# EAGLE library part DSPIC33FJ128MC706A (library biomimetic)
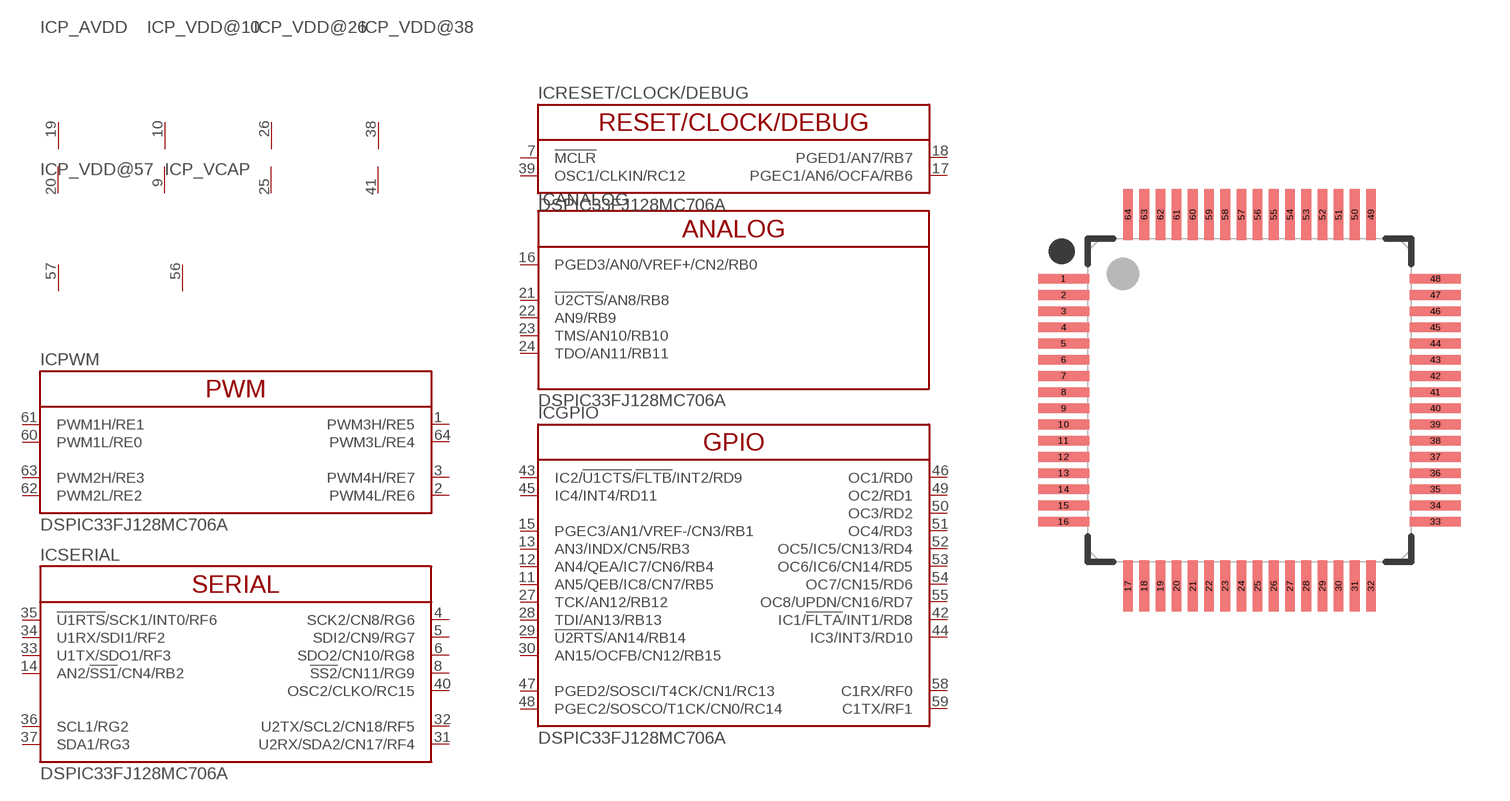
[diagram p5: symbol with the pads of TQFP-64; footprint TQFP-64]

Designator prefix IC; gates RESET/CLOCK/DEBUG=DSPIC33FJ128MC706A_DEBUG SERIAL=DSPIC33FJ128MC706A_SERIAL PWM=DSPIC33FJ128MC706A_PWM GPIO=DSPIC33FJ128MC706A_GPIO ANALOG=DSPIC33FJ128MC706A_ANALOG P_AVDD=V+- P_VDD@10=V+- P_VDD@26=V+- P_VDD@38=V+- P_VDD@57=V+ P_VCAP=V+

## DSPIC33FJ128MC706A  [TQFP-64]
1  PWM:PWM3H/RE5
2  PWM:PWM4L/RE6
3  PWM:PWM4H/RE7
4  SERIAL:SCK2/CN8/RG6
5  SERIAL:SDI2/CN9/RG7
6  SERIAL:SDO2/CN10/RG8
7  RESET/CLOCK/DEBUG:!MCLR  in
8  SERIAL:!SS2!/CN11/RG9
9  P_VDD@10:V-  pwr
10  P_VDD@10:V+  pwr
11  GPIO:AN5/QEB/IC8/CN7/RB5
12  GPIO:AN4/QEA/IC7/CN6/RB4
13  GPIO:AN3/INDX/CN5/RB3
14  SERIAL:AN2/!SS1!/CN4/RB2
15  GPIO:PGEC3/AN1/VREF-/CN3/RB1
16  ANALOG:PGED3/AN0/VREF+/CN2/RB0
17  RESET/CLOCK/DEBUG:PGEC1/AN6/OCFA/RB6
18  RESET/CLOCK/DEBUG:PGED1/AN7/RB7
19  P_AVDD:V+  pwr
20  P_AVDD:V-  pwr
21  ANALOG:!U2CTS!/AN8/RB8
22  ANALOG:AN9/RB9
23  ANALOG:TMS/AN10/RB10
24  ANALOG:TDO/AN11/RB11
25  P_VDD@26:V-  pwr
26  P_VDD@26:V+  pwr
27  GPIO:TCK/AN12/RB12
28  GPIO:TDI/AN13/RB13
29  GPIO:!U2RTS!/AN14/RB14
30  GPIO:AN15/OCFB/CN12/RB15
31  SERIAL:U2RX/SDA2/CN17/RF4
32  SERIAL:U2TX/SCL2/CN18/RF5
33  SERIAL:U1TX/SDO1/RF3
34  SERIAL:U1RX/SDI1/RF2
35  SERIAL:!U1RTS!/SCK1/INT0/RF6
36  SERIAL:SCL1/RG2
37  SERIAL:SDA1/RG3
38  P_VDD@38:V+  pwr
39  RESET/CLOCK/DEBUG:OSC1/CLKIN/RC12
40  SERIAL:OSC2/CLKO/RC15
41  P_VDD@38:V-  pwr
42  GPIO:IC1/!FLTA!/INT1/RD8
43  GPIO:IC2/!U1CTS!/!FLTB!/INT2/RD9
44  GPIO:IC3/INT3/RD10
45  GPIO:IC4/INT4/RD11
46  GPIO:OC1/RD0
47  GPIO:PGED2/SOSCI/T4CK/CN1/RC13
48  GPIO:PGEC2/SOSCO/T1CK/CN0/RC14
49  GPIO:OC2/RD1
50  GPIO:OC3/RD2
51  GPIO:OC4/RD3
52  GPIO:OC5/IC5/CN13/RD4
53  GPIO:OC6/IC6/CN14/RD5
54  GPIO:OC7/CN15/RD6
55  GPIO:OC8/UPDN/CN16/RD7
56  P_VCAP:V+  pwr
57  P_VDD@57:V+  pwr
58  GPIO:C1RX/RF0
59  GPIO:C1TX/RF1
60  PWM:PWM1L/RE0
61  PWM:PWM1H/RE1
62  PWM:PWM2L/RE2
63  PWM:PWM2H/RE3
64  PWM:PWM3L/RE4

## Footprint TQFP-64 (pad centres in mm)
smd 1.575 x 0.3: 1 -5.737,3.75; 2 -5.737,3.25; 3 -5.737,2.75; 4 -5.737,2.25; 5 -5.737,1.75; 6 -5.737,1.25; 7 -5.737,0.75; 8 -5.737,0.25; 9 -5.737,-0.25; 10 -5.737,-0.75; 11 -5.737,-1.25; 12 -5.737,-1.75; 13 -5.737,-2.25; 14 -5.737,-2.75; 15 -5.737,-3.25; 16 -5.737,-3.75; 33 5.737,-3.75; 34 5.737,-3.25; 35 5.737,-2.75; 36 5.737,-2.25; 37 5.737,-1.75; 38 5.737,-1.25; 39 5.737,-0.75; 40 5.737,-0.25; 41 5.737,0.25; 42 5.737,0.75; 43 5.737,1.25; 44 5.737,1.75; 45 5.737,2.25; 46 5.737,2.75; 47 5.737,3.25; 48 5.737,3.75
smd 0.3 x 1.575: 17 -3.75,-5.737; 18 -3.25,-5.737; 19 -2.75,-5.737; 20 -2.25,-5.737; 21 -1.75,-5.737; 22 -1.25,-5.737; 23 -0.75,-5.737; 24 -0.25,-5.737; 25 0.25,-5.737; 26 0.75,-5.737; 27 1.25,-5.737; 28 1.75,-5.737; 29 2.25,-5.737; 30 2.75,-5.737; 31 3.25,-5.737; 32 3.75,-5.737; 49 3.75,5.737; 50 3.25,5.737; 51 2.75,5.737; 52 2.25,5.737; 53 1.75,5.737; 54 1.25,5.737; 55 0.75,5.737; 56 0.25,5.737; 57 -0.25,5.737; 58 -0.75,5.737; 59 -1.25,5.737; 60 -1.75,5.737; 61 -2.25,5.737; 62 -2.75,5.737; 63 -3.25,5.737; 64 -3.75,5.737